# Altium schematic symbol library Header 2X15.SchLib: 1 symbol
Pins are listed as number, name and electrical type; pins without a type are passive.

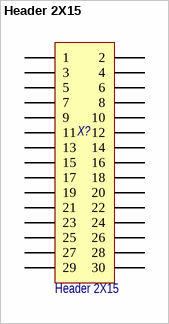
[diagram p0: symbol Header 2X15]

## Header 2X15
designator X?
Header, 30-Pin, Dual row; Потребление, Вт: 0,0; Назначение: Header, 30-Pin, Dual row; Наименование: Header 2X15
footprint PBD-30
pins: 1, 2, 3, 4, 5, 6, 7, 8, 9, 10, 11, 12, 13, 14, 15, 16, 17, 18, 19, 20, 21, 22, 23, 24, 25, 26, 27, 28, 29, 30